# Altium schematic symbol library RF_Switches.SchLib: 13 symbols
Pins are listed as number, name and electrical type; pins without a type are passive.

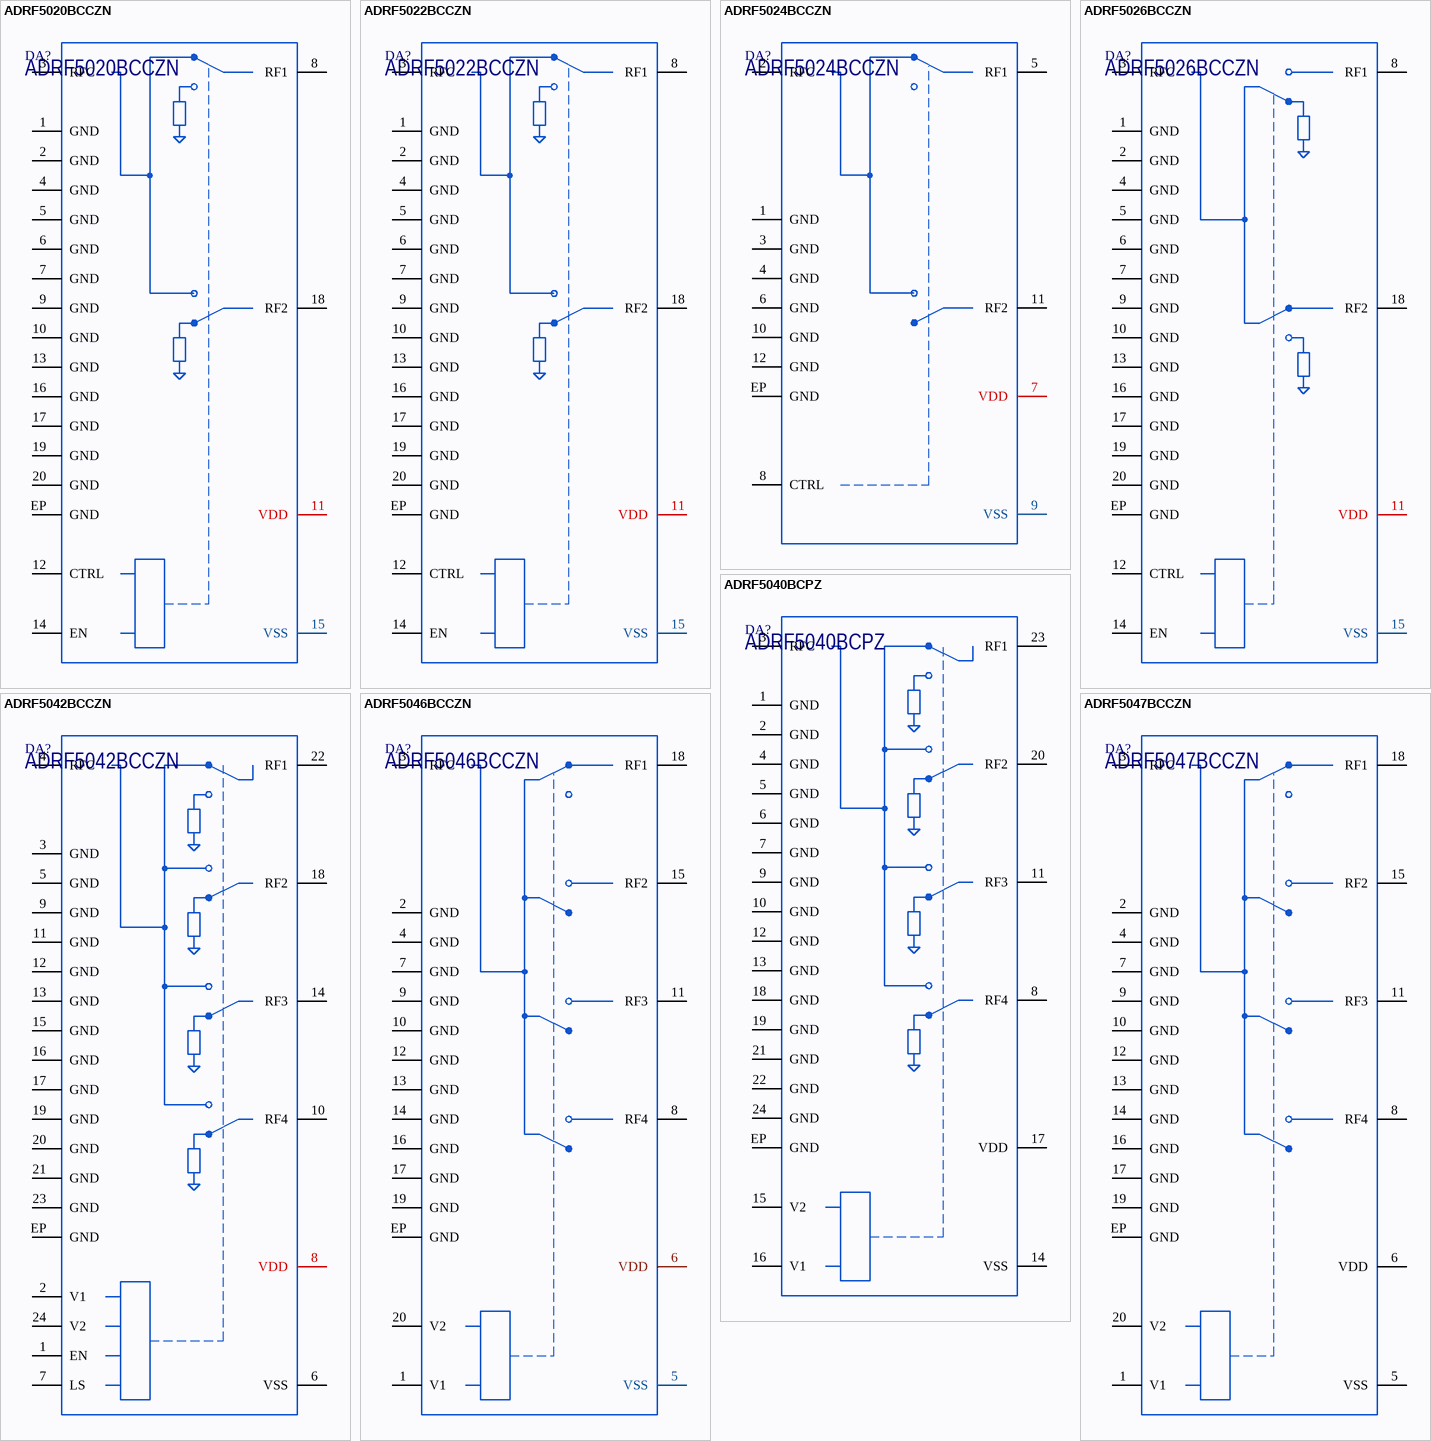
[diagram p0: symbols ADRF5020BCCZN to ADRF5047BCCZN]

## ADRF5020BCCZN
designator DA?
Silicon SPDT Switch 100 MHz to 30 GHz; Manufacturer: Analog Devices; Marking: 020; ItemType: IC; Package: LGA-20; PartNumber: ADRF5020BCCZN; ItemSubType: Switch; Mounting: SMD
footprint LGA-20(CC-20-3) (LGA, 20-Leads, Body 3x3mm, Pitch 0.40mm, Thermal Pad 1.60x1.60mm)
pins: 1 GND, 2 GND, 3 RFC (power), 4 GND, 5 GND, 6 GND, 7 GND, 8 RF1, 9 GND, 10 GND, 11 VDD (power), 12 CTRL, 13 GND, 14 EN (power), 15 VSS, 16 GND, 17 GND, 18 RF2, 19 GND, 20 GND, EP GND

## ADRF5022BCCZN
designator DA?
Silicon SPDT Switch, Nonreflective, 100 MHz to 45 GHz; Manufacturer: Analog Devices; ItemType: IC; Package: LGA-20; PartNumber: ADRF5022BCCZN; ItemSubType: Switch; Mounting: SMD
footprint LGA-20(CC-20-19) (LGA, 20-Leads, Body 3x3mm, Pitch 0.40mm, Thermal Pad 1.60x1.60mm)
pins: 1 GND, 2 GND, 3 RFC (power), 4 GND, 5 GND, 6 GND, 7 GND, 8 RF1, 9 GND, 10 GND, 11 VDD (power), 12 CTRL, 13 GND, 14 EN (power), 15 VSS, 16 GND, 17 GND, 18 RF2, 19 GND, 20 GND, EP GND

## ADRF5024BCCZN
designator DA?
Silicon SPDT Switch, Reflective, 100 MHz to 44 GHz; Manufacturer: Analog Devices; Marking: 024; ItemType: IC; Package: LGA-12; PartNumber: ADRF5024BCCZN; ItemSubType: Switch; Mounting: SMD
footprint LGA-12(CC-12-3) (LGA, 12-Leads, Body 2.25x2.25mm, Pitch 0.40mm, Thermal Pad 0.7x0.8mm)
footprint LGA-12(CC-12-3)_0.305 (LGA, 12-Leads, Body 2.25x2.25mm, Pitch 0.40mm, Thermal Pad 0.7x0.8mm)
pins: 1 GND, 2 RFC (power), 3 GND, 4 GND, 5 RF1, 6 GND, 7 VDD (power), 8 CTRL, 9 VSS, 10 GND, 11 RF2, 12 GND, EP GND

## ADRF5026BCCZN
designator DA?
Silicon SPDT Switch, Nonreflective, 100 MHz to 44 GHz; Manufacturer: Analog Devices; Marking: 026; ItemType: IC; Package: LGA-20; PartNumber: ADRF5026BCCZN; ItemSubType: Switch; Mounting: SMD
footprint LGA-20(CC-20-3) (LGA, 20-Leads, Body 3x3mm, Pitch 0.40mm, Thermal Pad 1.60x1.60mm)
pins: 1 GND, 2 GND, 3 RFC (power), 4 GND, 5 GND, 6 GND, 7 GND, 8 RF1, 9 GND, 10 GND, 11 VDD (power), 12 CTRL, 13 GND, 14 EN (power), 15 VSS, 16 GND, 17 GND, 18 RF2, 19 GND, 20 GND, EP GND

## ADRF5040BCPZ
designator DA?
High Isolation, Silicon SP4T, Nonreflective Switch, 9 kHz to 12.0 GHz; Manufacturer: Analog Devices; Marking: 5040; ItemType: IC; Package: LFCSP-24; PartNumber: ADRF5040BCPZ; ItemSubType: Switch; Mounting: SMD
footprint LFCSP-24(CP-24-16) (QFN, 24-Leads, Body 4x4mm, Pitch 0.50mm, Thermal Pad 2.70x2.70mm. Compliant to JEDEC standards MO-220-VGGD-6)
pins: 1 GND, 2 GND, 3 RFC (power), 4 GND, 5 GND, 6 GND, 7 GND, 8 RF4, 9 GND (power), 10 GND (power), 11 RF3, 12 GND (power), 13 GND (power), 14 VSS, 15 V2, 16 V1, 17 VDD, 18 GND (power), 19 GND, 20 RF2, 21 GND, 22 GND, 23 RF1, 24 GND, EP GND

## ADRF5042BCCZN
designator DA?
Nonreflective, 100 MHz to 44 GHz Silicon SP4T Switch; Manufacturer: Analog Devices; Marking: 042; ItemType: IC; Package: LGA-24; PartNumber: ADRF5042BCCZN; ItemSubType: Switch; Mounting: SMD
footprint LGA-24(CC-24-12) (LGA, 24-Leads, Body 3x3mm, Pitch 0.40mm, Thermal Pad 1.50x1.50mm)
pins: 1 EN, 2 V1, 3 GND, 4 RFC (power), 5 GND, 6 VSS, 7 LS, 8 VDD, 9 GND, 10 RF4, 11 GND, 12 GND, 13 GND, 14 RF3, 15 GND, 16 GND, 17 GND, 18 RF2, 19 GND, 20 GND, 21 GND, 22 RF1, 23 GND, 24 V2, EP GND

## ADRF5046BCCZN
designator DA?
Silicon SP4T Switch, Reflective, 100 MHz to 44 GHz; Manufacturer: Analog Devices; Marking: 046; ItemType: IC; Package: LGA-20; PartNumber: ADRF5046BCCZN; ItemSubType: Switch; Mounting: SMD
footprint LGA-20(CC-20-6) (LGA, 20-Leads, Body 3x3mm, Pitch 0.40mm, Thermal Pad 1.50x1.50mm.)
footprint LGA-20(CC-20-6)_0.305 (LGA, 20-Leads, Body 3x3mm, Pitch 0.40mm, Thermal Pad 1.50x1.50mm)
pins: 1 V1 (power), 2 GND, 3 RFC (power), 4 GND, 5 VSS, 6 VDD (power), 7 GND (power), 8 RF4, 9 GND (power), 10 GND (power), 11 RF3, 12 GND (power), 13 GND (power), 14 GND (power), 15 RF2, 16 GND (power), 17 GND (power), 18 RF1, 19 GND, 20 V2, EP GND

## ADRF5047BCCZN
designator DA?
Silicon SP4T Switch, Reflective, 9 kHz to 44 GHz; Manufacturer: Analog Devices; Marking: 047; ItemType: IC; Package: LGA-20; PartNumber: ADRF5047BCCZN; ItemSubType: Switch; Mounting: SMD
footprint LGA-20(CC-20-6) (LGA, 20-Leads, Body 3x3mm, Pitch 0.40mm, Thermal Pad 1.50x1.50mm.)
pins: 1 V1 (power), 2 GND, 3 RFC (power), 4 GND, 5 VSS, 6 VDD (power), 7 GND (power), 8 RF4, 9 GND (power), 10 GND (power), 11 RF3, 12 GND (power), 13 GND (power), 14 GND (power), 15 RF2, 16 GND (power), 17 GND (power), 18 RF1, 19 GND, 20 V2, EP GND

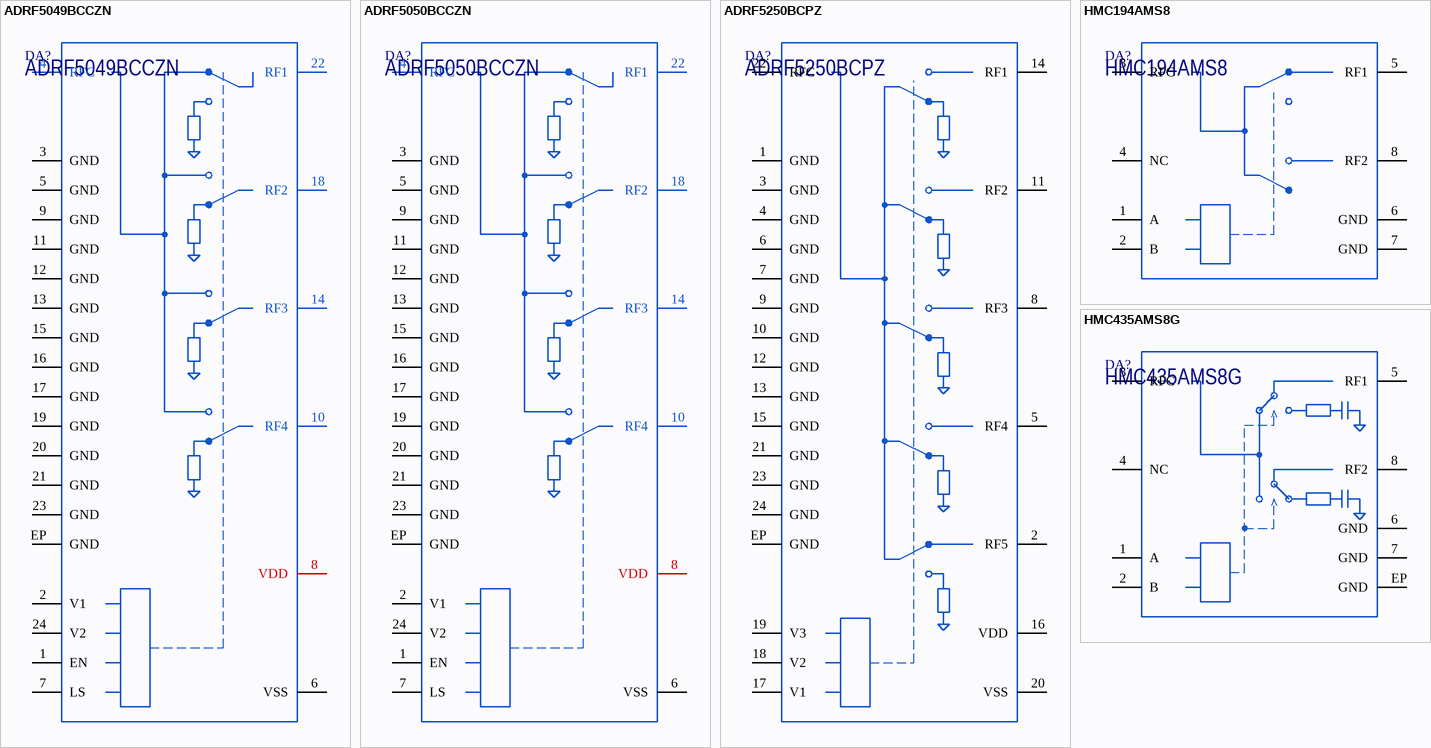
[diagram p1: symbols ADRF5049BCCZN to HMC435AMS8G]

## ADRF5049BCCZN
designator DA?
Silicon SP4T Switch, Nonreflective, 9 kHz to 45 GHz; Manufacturer: Analog Devices; Marking: 5049; ItemType: IC; Package: LGA-24; PartNumber: ADRF5049BCCZN; ItemSubType: Switch; Mounting: SMD
footprint LGA-24(CC-24-14) (LGA, 24-Leads, Body 3x3mm, Pitch 0.40mm, Thermal Pad 1.60x1.50mm)
pins: 1 EN, 2 V1, 3 GND, 4 RFC (power), 5 GND, 6 VSS, 7 LS, 8 VDD, 9 GND, 10 RF4, 11 GND, 12 GND, 13 GND, 14 RF3, 15 GND, 16 GND, 17 GND, 18 RF2, 19 GND, 20 GND, 21 GND, 22 RF1, 23 GND, 24 V2, EP GND

## ADRF5050BCCZN
designator DA?
Nonreflective, Silicon SP4T Switch, 100 MHz to 20 GHz; Manufacturer: Analog Devices; Marking: 5050; ItemType: IC; Package: LGA-24; PartNumber: ADRF5050BCCZN; ItemSubType: Switch; Mounting: SMD
footprint LGA-24(CC-24-16) (LGA, 24-Leads, Body 3x3mm, Pitch 0.40mm, Thermal Pad 1.50x1.50mm)
pins: 1 EN, 2 V1, 3 GND, 4 RFC (power), 5 GND, 6 VSS, 7 LS, 8 VDD, 9 GND, 10 RF4, 11 GND, 12 GND, 13 GND, 14 RF3, 15 GND, 16 GND, 17 GND, 18 RF2, 19 GND, 20 GND, 21 GND, 22 RF1, 23 GND, 24 V2, EP GND

## ADRF5250BCPZ
designator DA?
0.1 GHz to 6 GHz Silicon SP5T Switch; Manufacturer: Analog Devices; ItemType: IC; Package: LFCSP-24; PartNumber: ADRF5250BCPZ; ItemSubType: Switch; Mounting: SMD
footprint LFCSP-24(CP-24-23) (QFN, 24-Leads, Body 4x4mm, Pitch 0.50mm, Thermal Pad 2.70x2.70mm. Compliant to JEDEC standards MO-220-WGGD-6)
pins: 1 GND, 2 RF5, 3 GND, 4 GND, 5 RF4, 6 GND, 7 GND, 8 RF3, 9 GND, 10 GND, 11 RF2, 12 GND, 13 GND, 14 RF1, 15 GND, 16 VDD, 17 V1, 18 V2, 19 V3, 20 VSS, 21 GND, 22 RFC, 23 GND, 24 GND, EP GND

## HMC194AMS8
designator DA?
GaAs MMIC SPDT Switch DC - 3 GHz; Manufacturer: Analog Devices; Marking: H194A; ItemType: IC; Package: MSOP-8; PartNumber: HMC194AMS8; ItemSubType: Switch; Mounting: SMD
footprint MSOP8_JEDEC_MO187AA (MSOP, 8-Leads, Body 3.00x3.00mm, Pitch 0.65mm)
pins: 1 A, 2 B, 3 RFC (power), 4 NC (hiz), 5 RF1, 6 GND, 7 GND, 8 RF2

## HMC435AMS8G
designator DA?
SPDT Non-Reflective Switch, DC - 4 GHz; Manufacturer: Analog Devices; Marking: H435A; ItemType: IC; Package: MSOP-86; PartNumber: HMC435AMS8G; ItemSubType: Switch; Mounting: SMD
footprint MSOP86_HMC435A (MSOP, 8-Leads, Body 3.00x3.00mm, Exposed Pad 1.78x2.41mm, Pitch 0.65mm)
pins: 1 A, 2 B, 3 RFC (power), 4 NC (hiz), 5 RF1, 6 GND, 7 GND, 8 RF2, EP GND